# Altium footprint library PcbLib1.PcbLib: 202 footprints (part 6 of 13)
Each footprint in its own frame and in the unit in brackets; x right, y up, seen from the top. Pads: shape width x height; smd on the part's side, far side on the other; paste and mask are expansions set on the pad; w line width, h text height; cw(c..) or ccw(c..) is an arc to the next point about the centre after c.
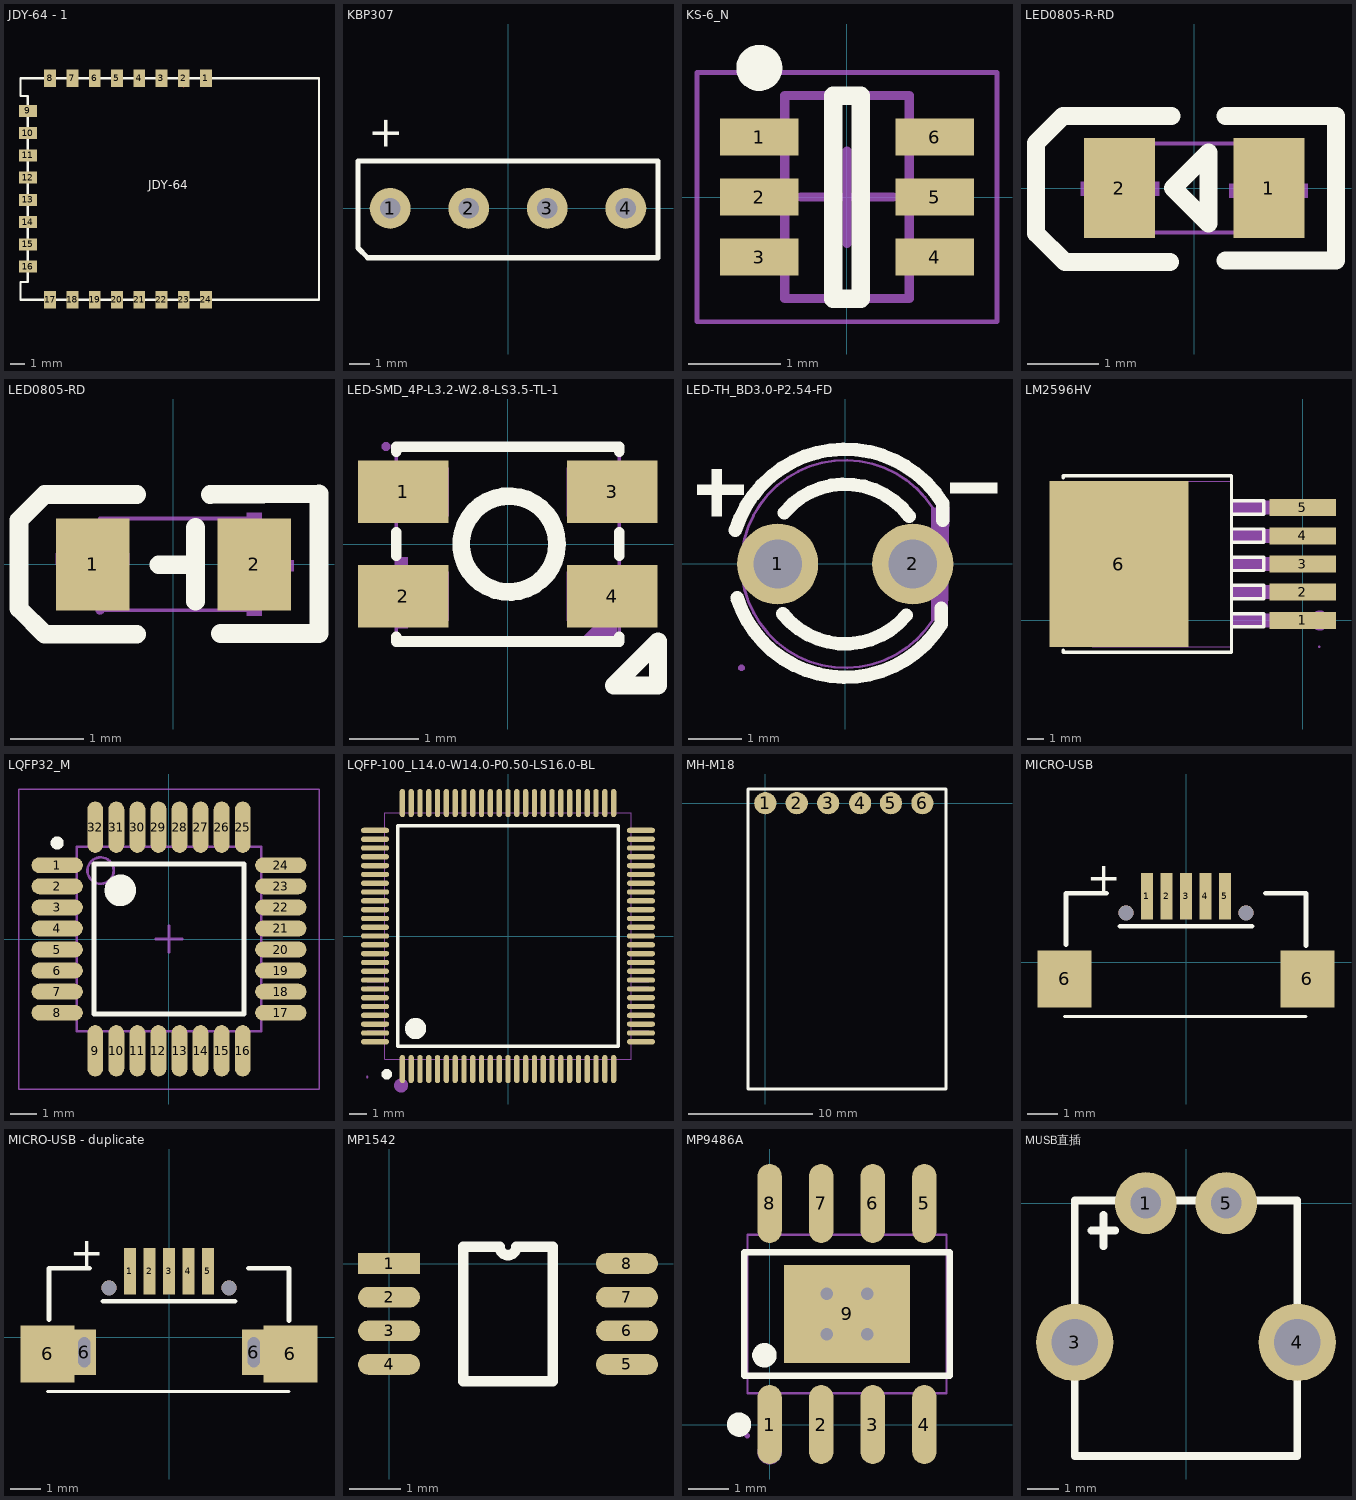
[diagram p5: the footprints below, top view; thin cyan lines are the x and y axes]

## JDY-64 - 1 [mm]
pads (24):
  rect 0.8x1.2 smd: 1(393.299,368.249) 2(391.799,368.249) 3(390.299,368.249) 4(388.799,368.249) 5(387.299,368.249) 6(385.799,368.249) 7(384.299,368.249) 8(382.799,368.249) 17(382.799,353.314) 18(384.299,353.314) 19(385.799,353.314) 20(387.299,353.314) 21(388.799,353.314) 22(390.299,353.314) 23(391.799,353.314) 24(393.299,353.314)
  rect 1.2x0.8 smd: 9(381.299,366.047) 10(381.299,364.547) 11(381.299,363.047) 12(381.299,361.547) 13(381.299,360.047) 14(381.299,358.547) 15(381.299,357.047) 16(381.299,355.547)
Top Layer:
  lines w0.16: 400.914,366.344 400.914,368.249
  lines w0.2: 381.299,358.547 381.711,358.759
  lines w0.23: 381.299,366.047 381.628,366.047 ; 382.799,367.921 382.799,368.249 ; 384.299,367.921 384.299,368.249 ; 385.799,367.921 385.799,368.249 ; 387.299,367.921 387.299,368.249 ; 388.799,367.921 388.799,368.249 ; 390.299,367.921 390.299,368.249 ; 391.799,367.72 391.799,368.249 391.799,367.921 ; 393.299,353.314 393.299,353.642 ; 393.299,367.921 393.299,368.249
Top Overlay:
  lines w0.16: 380.799,353.314 381.299,353.314 394.488,353.314 400.914,353.314 400.914,355.219 400.914,368.249 395.859,368.249 394.488,368.249 381.299,368.249 380.799,368.249 380.799,367.049 381.299,367.049 381.299,354.514 380.799,354.514 380.799,353.314
  text "JDY-64" at 389.407,360.756 h0.6

## KBP307 [mm]
pads (4):
  round 2 hole 1: 1(-5.775,0) 2(-1.925,0) 3(1.925,0) 4(5.775,0)
Top Overlay:
  lines w0.254: -7.35,-1.94 -6.87,-2.42 7.35,-2.42 7.35,2.315 -7.35,2.315 -7.35,-1.94
  text "+" at -5.334,2.794 h1.52

## KS-6_N [mm] "SOT23, 6-Leads, Body 2x1.3mm, Pitch 0.65mm, Lead Span 2.1mm, IPC Medium Density"
height 1.1
pads (6):
  rect 0.85x0.4 smd: 1(-0.95,0.65) 2(-0.95,0) 3(-0.95,-0.65) 4(0.95,-0.65) 5(0.95,0) 6(0.95,0.65)
Top Overlay:
  circle w0.25: c-0.95,1.4 r0.125
  lines w0.2: -0.15,-1.1 -0.15,1.1 0.15,1.1 0.15,-1.1 -0.15,-1.1
Mechanical 13:
  lines w0.1: -0.675,-1.1 0.675,-1.1 0.675,1.1 -0.675,1.1 -0.675,-1.1
Mechanical 15:
  lines w0.05: -1.625,-1.35 1.625,-1.35 1.625,1.35 -1.625,1.35 -1.625,-1.35
  lines w0.1: -0.5,0 0.5,0 ; 0,-0.5 0,0.5
3D body: height 1.1, standoff 0, extent -0.675,-1.1 0.675,1.1

## LED0805-R-RD [mm]
pads (2):
  rect 1x1.4 smd: 1(1.05,0) 2(-1.05,0)
Top Overlay:
  lines w0.254: -0.344,-1.043 -1.817,-1.043 -2.224,-0.636 -2.224,0.634 -1.843,1.015 -0.319,1.015 ; 0.443,-1.017 1.993,-1.017 1.993,1.015 0.443,1.015 ; -0.3,0 -0.2,0.1 0.2,0.5 0.2,-0.5 -0.2,-0.1 -0.3,0
Mechanical 6:
  region: 0.941,-0.556 0.941,0.544 1.141,0.544 1.141,-0.556
  region: 0.494,0.06 1.594,0.06 1.594,-0.14 0.494,-0.14
  region: -0.494,-0.109 -1.594,-0.109 -1.594,0.091 -0.494,0.091
Mechanical 15:
  region: 1.06,0.625 1.059,0.65 1.024,0.684 0.976,0.684 0.941,0.65 0.94,0.625 0.941,0.601 0.976,0.566 1.024,0.566 1.059,0.601
  region: 1,-0.625 0.6,-0.625 0.6,0.625 1,0.625
  region: -0.6,-0.625 -1,-0.625 -1,0.625 -0.6,0.625
  lines w0.051: -1,-0.625 -1,0.625 1,0.625 1,-0.625 -1,-0.625

## LED0805-RD [mm]
pads (2):
  rect 1.001x1.25 smd: 1(-1.1,0) 2(1.1,0)
Top Overlay:
  lines w0.254: -0.5,-0.95 -1.75,-0.95 -2.101,-0.599 -2.101,0.599 -1.75,0.95 -0.5,0.95 ; -0.201,-0.005 0.3,-0.005 ; 0.3,-0.5 0.3,0.5 ; 0.5,0.95 1.979,0.96 1.979,-0.94 0.64,-0.94
Mechanical 2:
  region: 0.998,0.701 1.199,0.701 1.199,-0.701 0.998,-0.701
  region: 0.635,-0.094 1.633,-0.094 1.633,0.056 0.635,0.056
  region: -1.6,0 -0.599,0 -0.599,0.15 -1.6,0.15
Mechanical 6:
  lines w0.051: -1.001,-0.625 -1.001,0.625 1.001,0.625 1.001,-0.625 -1.001,-0.625
Mechanical 8:
  region: -0.94,-0.625 -0.95,-0.658 -0.975,-0.681 -1.008,-0.683 -1.039,-0.671 -1.059,-0.643 -1.059,-0.607 -1.039,-0.579 -1.008,-0.566 -0.975,-0.572 -0.95,-0.592
Mechanical 9:
  region: 0.998,-0.625 0.65,-0.625 0.65,0.625 0.998,0.625
  region: -0.65,-0.625 -1.001,-0.625 -1.001,0.625 -0.65,0.625

## LED-SMD_4P-L3.2-W2.8-LS3.5-TL-1 [mm]
pads (4):
  rect 1.3x0.9 smd paste+0 mask+0.05: 1(-1.5,0.75) 2(-1.5,-0.75) 3(1.5,0.75) 4(1.5,-0.75)
Top Overlay:
  circle w0.254: c0.02,0 r0.689
  lines w0.152: -1.6,-1.33 -1.6,-1.4 1.6,-1.4 1.6,-1.33 ; -1.6,-0.17 -1.6,0.17 ; -1.6,1.33 -1.6,1.4 1.6,1.4 1.6,1.33 ; 1.6,-0.17 1.6,0.17
  lines w0.254: 1.524,-2.031 2.159,-1.396 2.159,-2.031 1.524,-2.031
Mechanical 6:
  region: 1.57,-1.443 0.97,-1.443 1.57,-0.843
  region: -1.436,-1.206 -1.606,-1.206 -1.606,-0.186 -1.436,-0.186
  region: -2.032,-0.762 -2.032,-0.592 -1.012,-0.592 -1.012,-0.762
  region: 0.968,-0.992 0.968,-0.822 1.988,-0.822 1.988,-0.992
  region: 0.968,0.508 0.968,0.678 1.988,0.678 1.988,0.508
  region: -2.032,0.508 -2.032,0.678 -1.012,0.678 -1.012,0.508
Mechanical 15:
  region: -1.75,0.4 -1.75,1.1 -0.85,1.1 -0.85,0.4
  region: -1.75,-1.1 -1.75,-0.4 -0.85,-0.4 -0.85,-1.1
  region: 0.85,0.4 0.85,1.1 1.75,1.1 1.75,0.4
  region: 0.85,-1.1 0.85,-0.4 1.75,-0.4 1.75,-1.1
  region: -1.69,1.4 -1.69,1.425 -1.725,1.459 -1.775,1.459 -1.81,1.425 -1.81,1.4 -1.81,1.375 -1.775,1.341 -1.725,1.341 -1.69,1.375
  lines w0.051: -1.6,-1.4 -1.6,1.4 1.6,1.4 1.6,-1.4 -1.6,-1.4

## LED-TH_BD3.0-P2.54-FD [mil]
pads (2):
  round 60 hole 36: 1(-50,0) 2(50,0)
Top Overlay:
  region: 112.32,60 77.68,60 77.68,52.52 112.32,52.52
  region: -98.74,70 -98.74,35.35 -91.26,35.35 -91.26,70
  region: -75,58.74 -109.64,58.74 -109.64,51.26 -75,51.26
  lines w10: -81.26,24.92 cw(c0,0) 72.06,45.07 72.06,32.26 ; -80,-25 ccw(c0,0) 71.08,-44.42 71.23,-32.82 ; -46.19,-36.85 ccw(c0,0) 45.22,-38.04 ; -45.12,38.07 cw(c0,0) 47.36,35.24
Mechanical 6:
  region: 64.57,41.73 64.57,-41.73 75.98,-41.73 75.98,-41.34 77.17,41.73
Mechanical 15:
  region: -74.43,-76.85 -74.47,-75.9 -75.84,-74.59 -77.74,-74.59 -79.12,-75.91 -79.15,-76.86 -79.11,-77.8 -77.74,-79.12 -75.84,-79.12 -74.47,-77.8
  region: -59.84,9.84 -40.16,9.84 -40.16,-9.84 -59.84,-9.84
  region: 40.16,9.84 59.84,9.84 59.84,-9.84 40.16,-9.84
  lines w2: 64.57,41.73 ccw(c0.05,-0.01) 64.6,-41.7 64.57,41.73

## LM2596HV [mil]
pads (6):
  rect 157.5x40.2 smd mask+2: 1(0,0) 2(0,67) 3(0,133.9) 4(0,200.8) 5(0,267.8)
  rect 330.7x393.7 smd mask+2: 6(-437,133.9)
Top Overlay:
  lines w7.9: -569.3,-71 -569.3,-76.1 -169.3,-76.1 -169.3,343.9 -569.3,343.9 -569.3,338.8 ; -169.3,-16.5 -169.3,-15.3 -92.5,-15.3 -92.5,16.1 -169.3,16.1 ; -169.3,50.5 -169.3,51.6 -92.5,51.6 -92.5,83.1 -169.3,83.1 ; -169.3,117.4 -169.3,118.5 -92.5,118.5 -92.5,150 -169.3,150 ; -169.3,184.3 -169.3,185.5 -92.5,185.5 -92.5,216.9 -169.3,216.9 ; -169.3,251.3 -169.3,252.4 -92.5,252.4 -92.5,283.9 -169.3,283.9
Mechanical 6:
  circle w23.6: c40.2,-0.3 r11.8
Mechanical 15:
  region: -61.4,251.8 -61.4,283.7 38.6,283.7 38.6,251.8
  region: -169.7,251.8 -169.7,283.7 -61,283.7 -61,251.8
  region: -61.4,184.9 -61.4,216.8 38.6,216.8 38.6,184.9
  region: -169.7,184.9 -169.7,216.8 -61,216.8 -61,184.9
  region: -61.4,118 -61.4,149.8 38.6,149.8 38.6,118
  region: -169.7,118 -169.7,149.8 -61,149.8 -61,118
  region: -61.4,51 -61.4,82.9 38.6,82.9 38.6,51
  region: -169.7,51 -169.7,82.9 -61,82.9 -61,51
  region: -61.4,-15.9 -61.4,16 38.6,16 38.6,-15.9
  region: -169.7,-15.9 -169.7,16 -61,16 -61,-15.9
  region: -279.5,330.8 -279.5,-62.9 -525.4,-62.9 -565.4,-26.1 -565.4,293.9 -525.4,330.8
  region: 41,-62.9 41,-61.91 39.59,-60.5 37.61,-60.5 36.2,-61.91 36.2,-62.9 36.2,-63.89 37.61,-65.3 39.59,-65.3 41,-63.89
  lines w2: -500,-62.9 -500,330.8 -169.3,330.8 -169.3,-62.9 -500,-62.9

## LQFP32_M [mm] "Thin QFP, 32-Leads, Body 7x7mm, Pitch 0.8mm, IPC Low Density"
height 1.6
pads (32):
  oval 1.95x0.6 smd: 1(-4.25,2.8) 2(-4.25,2) 3(-4.25,1.2) 4(-4.25,0.4) 5(-4.25,-0.4) 6(-4.25,-1.2) 7(-4.25,-2) 8(-4.25,-2.8) 17(4.25,-2.8) 18(4.25,-2) 19(4.25,-1.2) 20(4.25,-0.4) 21(4.25,0.4) 22(4.25,1.2) 23(4.25,2) 24(4.25,2.8)
  oval 0.6x1.95 smd: 9(-2.8,-4.25) 10(-2,-4.25) 11(-1.2,-4.25) 12(-0.4,-4.25) 13(0.4,-4.25) 14(1.2,-4.25) 15(2,-4.25) 16(2.8,-4.25) 25(2.8,4.25) 26(2,4.25) 27(1.2,4.25) 28(0.4,4.25) 29(-0.4,4.25) 30(-1.2,4.25) 31(-2,4.25) 32(-2.8,4.25)
Top Overlay:
  circle w0.6: c-1.85,1.85 r0.3
  circle w0.25: c-4.25,3.65 r0.125
  lines w0.2: -2.85,-2.85 2.85,-2.85 2.85,2.85 -2.85,2.85 -2.85,-2.85
Mechanical 13:
  circle w0.1: c-2.6,2.6 r0.5
  lines w0.1: -3.5,-3.5 3.5,-3.5 3.5,3.5 -3.5,3.5 -3.5,-3.5
Mechanical 15:
  lines w0.05: -5.7,-5.7 5.7,-5.7 5.7,5.7 -5.7,5.7 -5.7,-5.7
  lines w0.1: -0.5,0 0.5,0 ; 0,-0.5 0,0.5
3D body: height 1.6, standoff 0, extent -3.5,-3.5 3.5,3.5

## LQFP-100_L14.0-W14.0-P0.50-LS16.0-BL [mm]
pads (100):
  oval 0.3x1.6 smd paste-100 mask+0.051: 1(-6,-7.55) 2(-5.5,-7.55) 3(-5,-7.55) 4(-4.5,-7.55) 5(-4,-7.55) 6(-3.5,-7.55) 7(-3,-7.55) 8(-2.5,-7.55) 9(-2,-7.55) 10(-1.5,-7.55) 11(-1,-7.55) 12(-0.5,-7.55) 13(0,-7.55) 14(0.5,-7.55) 15(1,-7.55) 16(1.5,-7.55) 17(2,-7.55) 18(2.5,-7.55) 19(3,-7.55) 20(3.5,-7.55) 21(4,-7.55) 22(4.5,-7.55) 23(5,-7.55) 24(5.5,-7.55) 25(6,-7.55) 51(6,7.55) 52(5.5,7.55) 53(5,7.55) 54(4.5,7.55) 55(4,7.55) 56(3.5,7.55) 57(3,7.55) 58(2.5,7.55) 59(2,7.55) 60(1.5,7.55) 61(1,7.55) 62(0.5,7.55) 63(0,7.55) 64(-0.5,7.55) 65(-1,7.55) 66(-1.5,7.55) 67(-2,7.55) 68(-2.5,7.55) 69(-3,7.55) 70(-3.5,7.55) 71(-4,7.55) 72(-4.5,7.55) 73(-5,7.55) 74(-5.5,7.55) 75(-6,7.55)
  oval 1.6x0.3 smd paste-100 mask+0.051: 26(7.55,-6) 27(7.55,-5.5) 28(7.55,-5) 29(7.55,-4.5) 30(7.55,-4) 31(7.55,-3.5) 32(7.55,-3) 33(7.55,-2.5) 34(7.55,-2) 35(7.55,-1.5) 36(7.55,-1) 37(7.55,-0.5) 38(7.55,0) 39(7.55,0.5) 40(7.55,1) 41(7.55,1.5) 42(7.55,2) 43(7.55,2.5) 44(7.55,3) 45(7.55,3.5) 46(7.55,4) 47(7.55,4.5) 48(7.55,5) 49(7.55,5.5) 50(7.55,6) 76(-7.55,6) 77(-7.55,5.5) 78(-7.55,5) 79(-7.55,4.5) 80(-7.55,4) 81(-7.55,3.5) 82(-7.55,3) 83(-7.55,2.5) 84(-7.55,2) 85(-7.55,1.5) 86(-7.55,1) 87(-7.55,0.5) 88(-7.55,0) 89(-7.55,-0.5) 90(-7.55,-1) 91(-7.55,-1.5) 92(-7.55,-2) 93(-7.55,-2.5) 94(-7.55,-3) 95(-7.55,-3.5) 96(-7.55,-4) 97(-7.55,-4.5) 98(-7.55,-5) 99(-7.55,-5.5) 100(-7.55,-6)
Top Overlay:
  lines w0.2: -6.25,-6.25 6.25,-6.25 6.25,6.25 -6.25,6.25 -6.25,-6.25
  lines w0.3: -6.883,-7.696 ccw(c-6.882,-7.846) -6.881,-7.696
  lines w0.6: -5.25,-4.95 ccw(c-5.248,-5.25) -5.245,-4.95
Top Paste:
  drawing of 100 lines, arcs and shapes, not listed
Mechanical 6:
  circle w0.4: c-6.071,-8.484 r0.2
Mechanical 15:
  drawing of 205 lines, arcs and shapes, not listed

## MH-M18 [mm]
pads (6):
  round 1.8 smd: 1(0,0) 2(2.54,0) 3(5.08,0) 4(7.662,0) 5(10.16,0) 6(12.7,0)
Top Overlay:
  lines w0.254: 14.605,-3.556 14.605,1.143 -1.397,1.143 -1.397,0.127 -1.397,-23.114 14.605,-23.114 14.605,0.127

## MICRO-USB [mm]
pads (9):
  rect 0.4x1.55 smd: 1(-1.3,2.2) 2(-0.65,2.2) 3(0,2.2) 4(0.65,2.2) 5(1.3,2.2)
  rect 1.8x1.9 smd: 6(-4.05,-0.55) 6(4.05,-0.55)
  round 0.5 hole 0.5 unplated: ""(-2,1.65) ""(2,1.65)
Top Overlay:
  lines w0.1: -4.05,-1.8 4,-1.8
  lines w0.152: -4,0.584 -4,2.3 -2.65,2.3 ; -2.2,1.2 2.2,1.2 ; 2.65,2.3 4,2.3 4,0.55
  text "+" at -3.3,2.35 h1

## MICRO-USB - duplicate [mm]
pads (11):
  rect 0.4x1.55 smd: 1(-1.3,2.2) 2(-0.65,2.2) 3(0,2.2) 4(0.65,2.2) 5(1.3,2.2)
  rect 1.8x1.9 smd: 6(-4.05,-0.55) 6(4.05,-0.55)
  rect 0.8x1.5 hole 0.4 slot 1 at 90 deg: 6(-2.825,-0.5) 6(2.825,-0.5)
  round 0.5 hole 0.5 unplated: ""(-2,1.65) ""(2,1.65)
Top Overlay:
  lines w0.1: -4.05,-1.8 4,-1.8
  lines w0.152: -4,0.584 -4,2.3 -2.65,2.3 ; -2.2,1.2 2.2,1.2 ; 2.65,2.3 4,2.3 4,0.55
  text "+" at -3.3,2.35 h1
Keep-Out Layer:
  lines w0.127: -3.054,-1.043 -2.596,-1.043 -2.596,0.075 -3.054,0.075 -3.054,-1.043 ; 2.596,-1.043 3.054,-1.043 3.054,0.075 2.596,0.075 2.596,-1.043
Mechanical 1:
  lines w0.127: -3.054,-1.043 -3.054,0.075 -2.596,0.075 -2.596,-1.043 -3.054,-1.043 ; 2.596,-1.043 2.596,0.075 3.054,0.075 3.054,-1.043 2.596,-1.043

## MP1542 [mm]
pads (8):
  rect 1.2x0.4 smd: 1(0,0)
  oval 1.2x0.4 smd: 2(0,-0.65) 3(0,-1.3) 4(0,-1.95) 5(4.6,-1.95) 6(4.6,-1.3) 7(4.6,-0.65) 8(4.6,0)
Top Overlay:
  lines w0.2: 1.435,-2.275 3.165,-2.275 3.165,0.325 2.462,0.325 cw(c2.3,0.325) 2.138,0.325 1.435,0.325 1.435,-2.275

## MP9486A [mm]
pads (9):
  oval 0.602x1.941 smd mask+0.051: 1(0,0) 2(1.27,0) 3(2.54,0) 4(3.81,0) 5(3.81,5.441) 6(2.54,5.441) 7(1.27,5.441) 8(0,5.441)
  rect 3.098x2.41 smd mask+0.051: 9(1.905,2.721)
via 2.405,2.22 diameter 0.61 hole 0.305
via 1.405,2.22 diameter 0.61 hole 0.305
via 2.405,3.22 diameter 0.61 hole 0.305
via 1.405,3.22 diameter 0.61 hole 0.305
Top Overlay:
  circle w0.3: c-0.753,0 r0.15
  circle w0.3: c-0.127,1.705 r0.15
  lines w0.152: -0.621,1.199 4.431,1.199 4.431,4.242 -0.621,4.242 -0.621,1.199
Mechanical 6:
  circle w0.3: c0,-0.679 r0.15
Mechanical 15:
  region: 0.356,3.926 3.454,3.926 3.454,1.516 0.356,1.516
  region: 3.595,5.081 3.595,4.661 4.025,4.661 4.025,5.081
  region: 3.595,5.721 3.595,5.071 4.025,5.071 4.025,5.721
  region: 2.325,5.081 2.325,4.661 2.755,4.661 2.755,5.081
  region: 2.325,5.721 2.325,5.071 2.755,5.071 2.755,5.721
  region: 1.055,5.081 1.055,4.661 1.485,4.661 1.485,5.081
  region: 1.055,5.721 1.055,5.071 1.485,5.071 1.485,5.721
  region: -0.215,5.081 -0.215,4.661 0.215,4.661 0.215,5.081
  region: -0.215,5.721 -0.215,5.071 0.215,5.071 0.215,5.721
  region: 3.595,0.361 3.595,0.781 4.025,0.781 4.025,0.361
  region: 3.595,-0.279 3.595,0.371 4.025,0.371 4.025,-0.279
  region: 2.325,0.361 2.325,0.781 2.755,0.781 2.755,0.361
  region: 2.325,-0.279 2.325,0.371 2.755,0.371 2.755,-0.279
  region: 1.055,0.361 1.055,0.781 1.485,0.781 1.485,0.361
  region: 1.055,-0.279 1.055,0.371 1.485,0.371 1.485,-0.279
  region: -0.215,0.361 -0.215,0.781 0.215,0.781 0.215,0.361
  region: -0.215,-0.279 -0.215,0.371 0.215,0.371 0.215,-0.279
  region: -0.485,-0.279 -0.485,-0.255 -0.52,-0.219 -0.57,-0.219 -0.605,-0.255 -0.605,-0.279 -0.605,-0.304 -0.57,-0.339 -0.52,-0.339 -0.485,-0.304
  lines w0.051: -0.545,0.771 4.355,0.771 4.355,4.671 -0.545,4.671 -0.545,0.771

## MUSB直插 [mm]
pads (4):
  round 2 hole 1: 1(-1.3,0) 5(1.3,0)
  round 2.5 hole 1.5: 3(-3.595,-4.5) 4(3.595,-4.5)
Top Overlay:
  lines w0.254: -3.048,-0.889 -2.286,-0.889 ; -2.667,-1.397 -2.667,-0.381 ; -3.595,-8.167 -3.595,-4.5 -3.595,0.088 3.595,0.088 3.595,-4.5 3.595,-8.167 -3.595,-8.167